# Altium schematic symbol library QUTMS_STM32Library.SchLib: 6 symbols
Pins are listed as number, name and electrical type; pins without a type are passive.

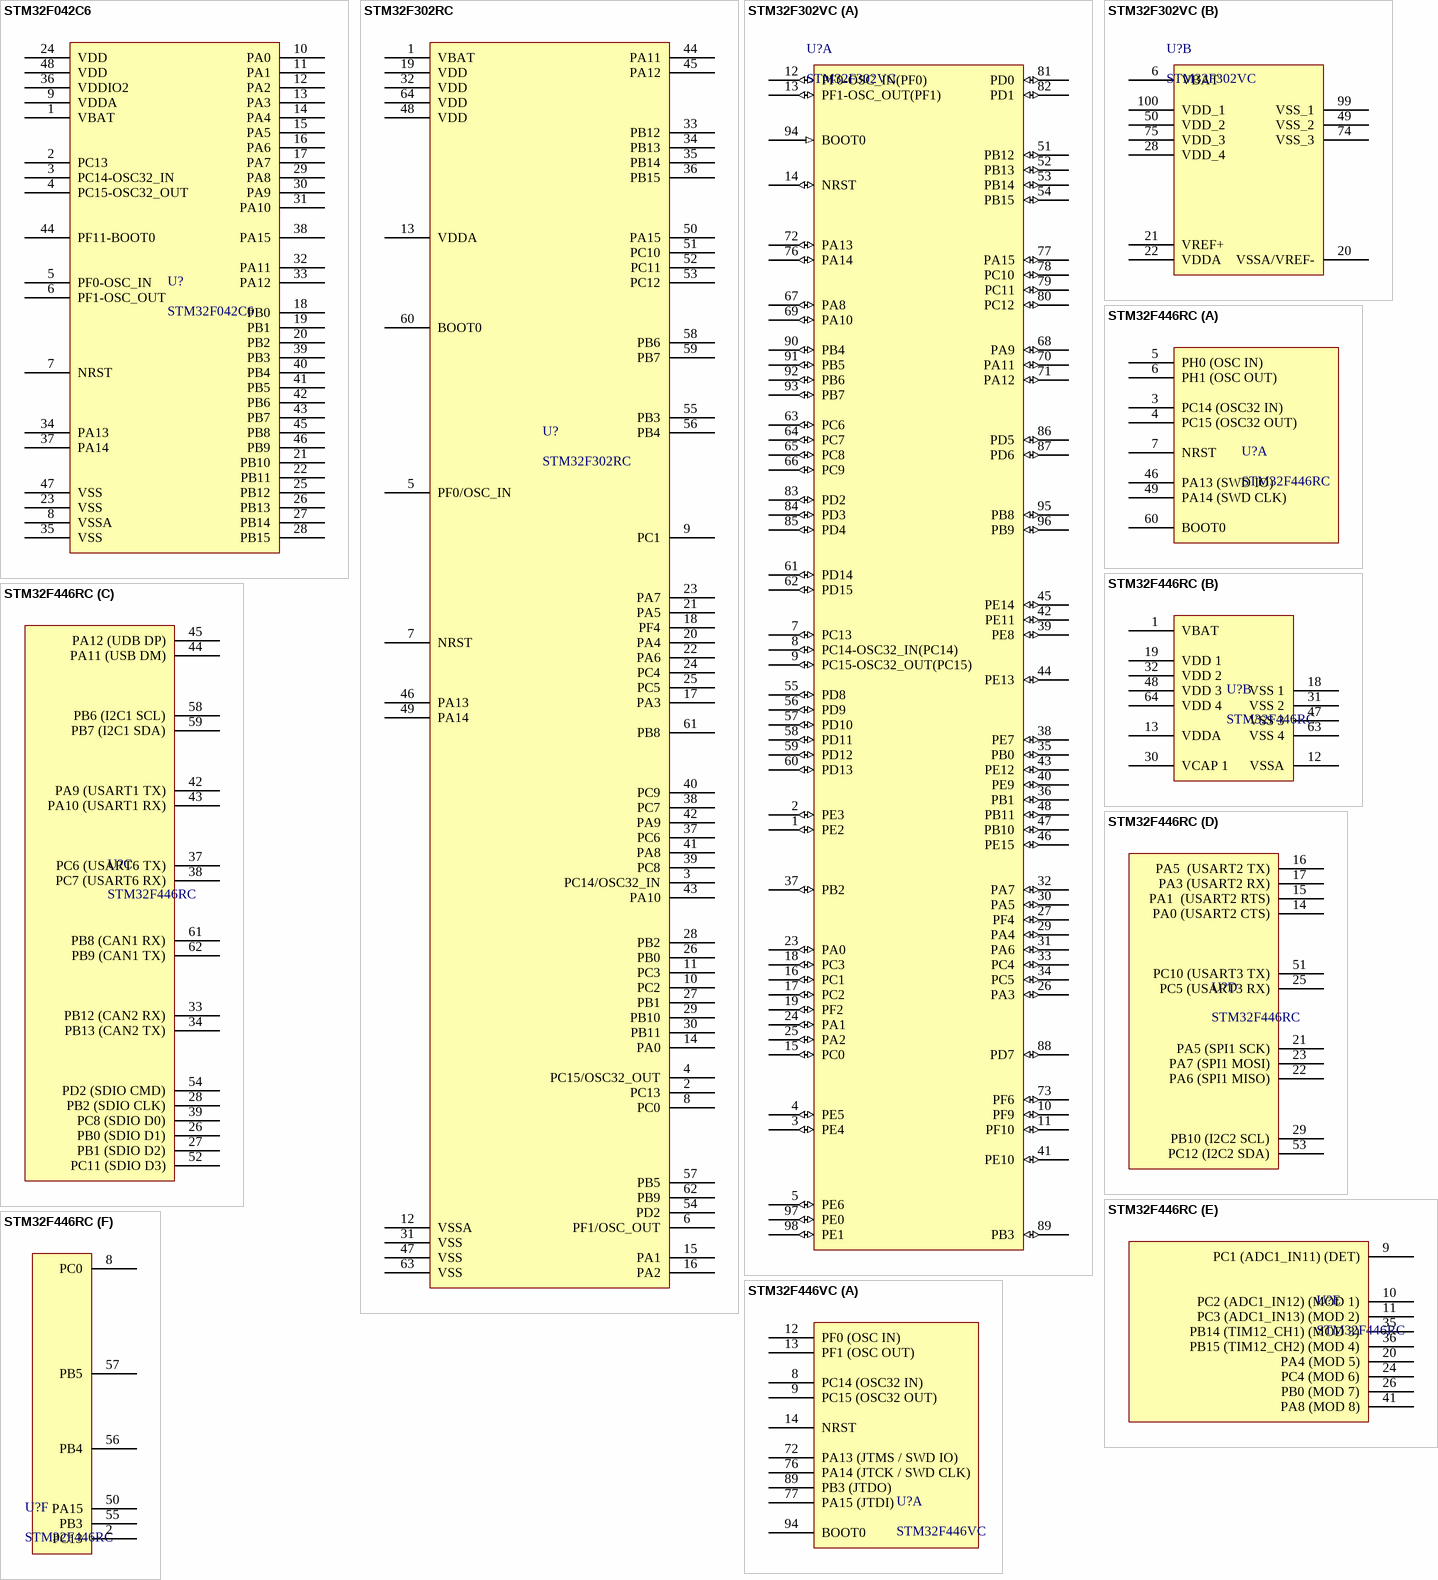
[diagram p0: symbols STM32F042C6 to STM32F446VC]

## STM32F042C6
designator U?
ARM® Cortex®-M0 STM32F0 Microcontroller IC 32-Bit 48MHz 32KB (32K x 8) FLASH 48-LQFP (7x7); ComponentLink1Description: Digikey; ComponentLink1URL: https://www.digikey.com.au/product-detail/en/stmicroelectronics/STM32F042C6T6TR/497-19319-1-ND/10063344; ComponentLink2Description: Datasheet; ComponentLink2URL: https://www.st.com/resource/en/datasheet/stm32f042k6.pdf
footprint STM32F042C6
pins: 1 VBAT, 2 PC13, 3 PC14-OSC32_IN, 4 PC15-OSC32_OUT, 5 PF0-OSC_IN, 6 PF1-OSC_OUT, 7 NRST, 8 VSSA, 9 VDDA, 10 PA0, 11 PA1, 12 PA2, 13 PA3, 14 PA4, 15 PA5, 16 PA6, 17 PA7, 18 PB0, 19 PB1, 20 PB2, 21 PB10, 22 PB11, 23 VSS, 24 VDD, 25 PB12, 26 PB13, 27 PB14, 28 PB15, 29 PA8, 30 PA9, 31 PA10, 32 PA11, 33 PA12, 34 PA13, 35 VSS, 36 VDDIO2, 37 PA14, 38 PA15, 39 PB3, 40 PB4, 41 PB5, 42 PB6, 43 PB7, 44 PF11-BOOT0, 45 PB8, 46 PB9, 47 VSS, 48 VDD

## STM32F302RC
designator U?
ARM® Cortex®-M4 STM32F3 Microcontroller IC 32-Bit 72MHz 256KB (256K x 8) FLASH 64-LQFP (10x10); ComponentLink1Description: Datasheet; ComponentLink1URL: https://www.st.com/resource/en/datasheet/stm32f302rc.pdf; ComponentLink2Description: Digikey; ComponentLink2URL: https://www.digikey.com.au/product-detail/en/stmicroelectronics/STM32F302RCT6TR/497-19000-1-ND/9974332
footprint STM32F302RC
pins: 1 VBAT, 2 PC13, 3 PC14/OSC32_IN, 4 PC15/OSC32_OUT, 5 PF0/OSC_IN, 6 PF1/OSC_OUT, 7 NRST, 8 PC0, 9 PC1, 10 PC2, 11 PC3, 12 VSSA, 13 VDDA, 14 PA0, 15 PA1, 16 PA2, 17 PA3, 18 PF4, 19 VDD, 20 PA4, 21 PA5, 22 PA6, 23 PA7, 24 PC4, 25 PC5, 26 PB0, 27 PB1, 28 PB2, 29 PB10, 30 PB11, 31 VSS, 32 VDD, 33 PB12, 34 PB13, 35 PB14, 36 PB15, 37 PC6, 38 PC7, 39 PC8, 40 PC9, 41 PA8, 42 PA9, 43 PA10, 44 PA11, 45 PA12, 46 PA13, 47 VSS, 48 VDD, 49 PA14, 50 PA15, 51 PC10, 52 PC11, 53 PC12, 54 PD2, 55 PB3, 56 PB4, 57 PB5, 58 PB6, 59 PB7, 60 BOOT0, 61 PB8, 62 PB9, 63 VSS, 64 VDD

## STM32F302VC
designator U?
ARM Cortex-M4 32-bit MCU, 256 KB Flash, 32 KB Internal RAM, 87 I/Os, 100-pin LQFP, -40 to 85 degC; PartNumber: STM32F302VCT6; FLASH Size (Prog) (kB): 256; Supply Voltage(Vcc) min (V): 2; Internal RAM Size (kB): 32; I/Os (High Current): 87; D/A Converter: 1x12-bit (1 Channel); Packing: Tray; Operating Frequency(F) (Processor speed) (MHz): 72; ComponentLink1URL: http://www.st.com/web/en/home.html; PackageDescription: 100-Pin Low Profile Quad Flat Package, 14 x 14 mm Body, 0.5 mm Pitch; ComponentLink1Description: Manufacturer URL; ComponentLink2URL: http://www.st.com/st-web-ui/static/active/en/resource/technical/document/datasheet/DM00058181.pdf; Mounting Technology: Surface Mount; Core: ARM Cortex-M4; ComponentLink2Description: Datasheet; ComponentLink3Description: Package Specification; PackageVersion: Rev. 1, 06/2013; ComponentLink3URL: http://www.st.com/st-web-ui/static/active/en/resource/technical/document/data_brief/DM00071938.pdf; PackageReference: LQFP100; DatasheetVersion: Rev. 6
footprint STM-LQFP100 (CQFP, 100-Leads, Body 16.00x16.00mm, Pitch 0.50mm, IPC Medium Density)
part A pins: 1 PE2 (io) "PE2/TRACECK,TIM3_CH1,TSC_G7_IO1,EVENTOUT", 2 PE3 (io) "PE3/TRACED0,TIM3_CH2,TSC_G7_IO2,EVENTOUT", 3 PE4 (io) "PE4/TRACED1,TIM3_CH3,TSC_G7_IO3,EVENTOUT", 4 PE5 (io) "PE5/TRACED2,TIM3_CH4,TSC_G7_IO4,EVENTOUT", 5 PE6 (io) "PE6/TRACED3,EVENTOUT/WKUP3,RTC_TAMP3", 7 PC13 (io) "PC13/TIM1_CH1N/WKUP2,RTC_TAMP1,RTC_TS,RTC_OUT", 8 PC14-OSC32_IN(PC14) (io) "PC14-OSC32_IN(PC14)/OSC32_IN", 9 PC15-OSC32_OUT(PC15) (io) "PC15-OSC32_OUT(PC15)/OSC32_OUT", 10 PF9 (io) "PF9/TIM15_CH1,SPI2_SCK,EVENTOUT", 11 PF10 (io) "PF10/TIM15_CH2,SPI2_SCK,EVENTOUT", 12 PF0-OSC_IN(PF0) (io) "PF0-OSC_IN(PF0)/TIM1_CH3N,I2C2_SDA/OSC_IN", 13 PF1-OSC_OUT(PF1) (io) "PF1-OSC_OUT(PF1)/I2C2_SCL/OSC_OUT", 14 NRST (io) "Device reset input / internal reset output (active low)", 15 PC0 (io) "PC0/EVENTOUT/ADC12_IN6", 16 PC1 (io) "PC1/EVENTOUT/ADC12_IN7", 17 PC2 (io) "PC2/EVENTOUT/ADC12_IN8", 18 PC3 (io) "PC3/TIM1_BKIN2,EVENTOUT/ADC12_IN9", 19 PF2 (io) "PF2/EVENTOUT/ADC12_IN10", 23 PA0 (io) "PA0/USART2_CTS,TIM2_CH1_ETR,TSC_G1_IO1,COMP1_OUT,EVENTOUT/ADC1_IN1,COMP1_INM,RTC_TAMP2,WKUP1", 24 PA1 (io) "PA1/USART2_RTS,TIM2_CH2,TSC_G1_IO2,TIM15_CH1N,RTC_REFIN,EVENTOUT/ADC1_IN2,COMP1_INP,OPAMP1_VINP", 25 PA2 (io) "PA2/USART2_TX,TIM2_CH3,TIM15_CH1,TSC_G1_IO3,COMP2_OUT,EVENTOUT/ADC1_IN3,COMP2_INM,OPAMP1_VOUT", 26 PA3 (io) "PA3/USART2_RX,TIM2_CH4,TIM15_CH2,TSC_G1_IO4,EVENTOUT/ADC1_IN4,OPAMP1_VINP,COMP2_INP,OPAMP1_VINM", 27 PF4 (io) "PF4/COMP1_OUT,EVENTOUT/ADC1_IN5", 29 PA4 (io) "PA4/SPI1_NSS,SPI3_NSS,USART2_CK,TSC_G2_IO1,TIM3_CH2,EVENTOUT/ADC2_IN1,DAC1_OUT1,COMP1_INM,COMP2_INM,COMP4_INM,COMP6_INM", 30 PA5 (io) "PA5/SPI1_SCK,TIM2_CH1_ETR,TSC_G2_IO2,EVENTOUT/ADC2_IN2,OPAMP1_VINP,OPAMP2_VINM,COMP1_INM,COMP2_INM,COMP4_INM,COMP6_INM", 31 PA6 (io) "PA6/SPI1_MISO,TIM3_CH1,TIM1_BKIN,TIM16_CH1,COMP1_OUT,TSC_G2_IO3,EVENTOUT/ADC2_IN3,OPAMP2_VOUT", 32 PA7 (io) "PA7/SPI1_MOSI,TIM3_CH2,TIM17_CH1,TIM1_CH1N,TSC_G2_IO4,COMP2_OUT,EVENTOUT/ADC2_IN4,COMP2_INP,OPAMP2_VINP,OPAMP1_VINP", 33 PC4 (io) "PC4/USART1_TX,EVENTOUT/ADC2_IN5", 34 PC5 (io) "PC5/USART1_RX,TSC_G3_IO1,EVENTOUT/ADC2_IN11,OPAMP2_VINM,OPAMP1_VINM", 35 PB0 (io) "PB0/TIM3_CH3,TIM1_CH2N,TSC_G3_IO2,EVENTOUT/COMP4_INP,OPAMP2_VINP", 36 PB1 (io) "PB1/TIM3_CH4,TIM1_CH3N,COMP4_OUT,TSC_G3_IO3,EVENTOUT", 37 PB2 (io) "PB2/TSC_G3_IO4,EVENTOUT/ADC2_IN12,COMP4_INM", 38 PE7 (io) "PE7/TIM1_ETR,EVENTOUT/COMP4_INP", 39 PE8 (io) "PE8/TIM1_CH1N,EVENTOUT/COMP4_INM", 40 PE9 (io) "PE9/TIM1_CH1,EVENTOUT", 41 PE10 (io) "PE10/TIM1_CH2N,EVENTOUT", 42 PE11 (io) "PE11/TIM1_CH2,EVENTOUT", 43 PE12 (io) "PE12/TIM1_CH3N,EVENTOUT", 44 PE13 (io) "PE13/TIM1_CH3,EVENTOUT", 45 PE14 (io) "PE14/TIM1_CH4,TIM1_BKIN2,EVENTOUT", 46 PE15 (io) "PE15/USART3_RX,TIM1_BKIN,EVENTOUT", 47 PB10 (io) "PB10/USART3_TX,TIM2_CH3,TSC_SYNC,EVENTOUT", 48 PB11 (io) "PB11/USART3_RX,TIM2_CH4,TSC_G6_IO1,EVENTOUT/COMP6_INP", 51 PB12 (io) "PB12/SPI2_NSS,I2C2_SMBA,USART3_CK,TIM1_BKIN,TSC_G6_IO2,EVENTOUT", 52 PB13 (io) "PB13/SPI2_SCK,USART3_CTS,TIM1_CH1N,TSC_G6_IO3,EVENTOUT", 53 PB14 (io) "PB14/SPI2_MISO,USART3_RTS,TIM1_CH2N,TIM15_CH1,TSC_G6_IO4,EVENTOUT/OPAMP2_VINP", 54 PB15 (io) "PB15/SPI2_MOSI,TIM1_CH3N,RTC_REFIN,TIM15_CH1N,TIM15_CH2,EVENTOUT/COMP6_INM", 55 PD8 (io) "PD8/USART3_TX,EVENTOUT", 56 PD9 (io) "PD9/USART3_RX,EVENTOUT", 57 PD10 (io) "PD10/USART3_CK,EVENTOUT/COMP6_INM", 58 PD11 (io) "PD11/USART3_CTS,EVENTOUT/COMP6_INP", 59 PD12 (io) "PD12/USART3_RTS,TIM4_CH1,TSC_G8_IO1,EVENTOUT", 60 PD13 (io) "PD13/TIM4_CH2,TSC_G8_IO2,EVENTOUT", 61 PD14 (io) "PD14/TIM4_CH3,TSC_G8_IO3,EVENTOUT/OPAMP2_VINP", 62 PD15 (io) "PD15/SPI2_NSS,TIM4_CH4,TSC_G8_IO4,EVENTOUT", 63 PC6 (io) "PC6/COMP6_OUT,TIM3_CH1,EVENTOUT", 64 PC7 (io) "PC7/TIM3_CH2,EVENTOUT", 65 PC8 (io) "PC8/TIM3_CH3,EVENTOUT", 66 PC9 (io) "PC9/TIM3_CH4,EVENTOUT", 67 PA8 (io) "PA8/I2C2_SMBA,USART1_CK,TIM1_CH1,TIM4_ETR,MCO,EVENTOUT", 68 PA9 (io) "PA9/I2C2_SCL,USART1_TX,TIM1_CH2,TIM2_CH3,TIM15_BKIN,TSC_G4_IO1,EVENTOUT", 69 PA10 (io) "PA10/I2C2_SDA,USART1_RX,TIM1_CH3,TIM2_CH4,TIM17_BKIN,TSC_G4_IO2,COMP6_OUT,EVENTOUT", 70 PA11 (io) "PA11/USART1_CTS,USB_DM,CAN_RX,TIM1_CH1N,TIM1_CH4,TIM1_BKIN2,TIM4_CH1,COMP1_OUT,EVENTOUT", 71 PA12 (io) "PA12/USART1_RTS,USB_DP,CAN_TX,TIM1_CH2N,TIM1_ETR,TIM4_CH2,TIM16_CH1,COMP2_OUT,EVENTOUT", 72 PA13 (io) "PA13/USART3_CTS,TIM4_CH3,TIM16_CH1N,TSC_G4_IO3,IR_OUT,SWDIO-JTMS,EVENTOUT", 73 PF6 (io) "PF6/I2C2_SCL,USART3_RTS,TIM4_CH4,EVENTOUT", 76 PA14 (io) "PA14/I2C1_SDA,USART2_TX,TIM1_BKIN,TSC_G4_IO4,SWCLK-JTCK,EVENTOUT", 77 PA15 (io) "PA15/I2C1_SCL,SPI1_NSS,SPI3_NSS,JTDI,USART2_RX,TIM1_BKIN,TIM2_CH1_ETR,EVENTOUT", 78 PC10 (io) "PC10/SPI3_SCK,USART3_TX,UART4_TX,EVENTOUT", 79 PC11 (io) "PC11/SPI3_MISO,USART3_RX,UART4_RX,EVENTOUT", 80 PC12 (io) "PC12/SPI3_MOSI,USART3_CK,UART5_TX,EVENTOUT", 81 PD0 (io) "PD0/CAN_RX,EVENTOUT", 82 PD1 (io) "PD1/CAN_TX,EVENTOUT", 83 PD2 (io) "PD2/UART5_RX,TIM3_ETR,EVENTOUT", 84 PD3 (io) "PD3/USART2_CTS,TIM2_CH1_ETR,EVENTOUT", 85 PD4 (io) "PD4/USART2_RTS,TIM2_CH2,EVENTOUT", 86 PD5 (io) "PD5/USART2_TX,EVENTOUT", 87 PD6 (io) "PD6/USART2_RX,TIM2_CH4,EVENTOUT", 88 PD7 (io) "PD7/USART2_CK,TIM2_CH3,EVENTOUT", 89 PB3 (io) "PB3/SPI3_SCK,SPI1_SCK,USART2_TX,TIM2_CH2,TIM3_ETR,TIM4_ETR,TSC_G5_IO1,JTDO-TRACESWO,EVENTOUT", 90 PB4 (io) "PB4/SPI3_MISO,SPI1_MISO,USART2_RX,TIM3_CH1,TIM16_CH1,TIM17_BKIN,TSC_G5_IO2,NJTRST,EVENTOUT", 91 PB5 (io) "PB5/SPI3_MOSI,SPI1_MOSI,I2C1_SMBA,USART2_CK,TIM16_BKIN,TIM3_CH2,TIM17_CH1,EVENTOUT", 92 PB6 (io) "PB6/I2C1_SCL,USART1_TX,TIM16_CH1N,TIM4_CH1,TSC_G5_IO3,EVENTOUT", 93 PB7 (io) "PB7/I2C1_SDA,USART1_RX,TIM3_CH4,TIM4_CH2,TIM17_CH1N,TSC_G5_IO4,EVENTOUT", 94 BOOT0 (in) "Boot memory selection", 95 PB8 (io) "PB8/I2C1_SCL,CAN_RX,TIM16_CH1,TIM4_CH3,TIM1_BKIN,TSC_SYNC,COMP1_OUT,EVENTOUT", 96 PB9 (io) "PB9/I2C1_SDA,CAN_TX,TIM17_CH1,TIM4_CH4,IR_OUT,COMP2_OUT,EVENTOUT", 97 PE0 (io) "PE0/USART1_TX,TIM4_ETR,TIM16_CH1,EVENTOUT", 98 PE1 (io) "PE1/USART1_RX,TIM17_CH1,EVENTOUT"
part B pins: 6 VBAT (power) "Backup power supply", 20 VSSA/VREF- (power) "Analog ground/Negative reference voltage", 21 VREF+ (power) "Positive reference voltage", 22 VDDA (power) "Analog power supply", 28 VDD_4 (power) "Digital power supply", 49 VSS_2 (power) "Digital ground", 50 VDD_2 (power) "Digital power supply", 74 VSS_3 (power) "Ground", 75 VDD_3 (power) "Digital power supply", 99 VSS_1 (power) "Ground", 100 VDD_1 (power) "Digital power supply"

## STM32F446RC
designator U?
ARM® Cortex®-M4 STM32F4 Microcontroller IC 32-Bit 180MHz 256KB (256K x 8) FLASH 64-LQFP (10x10)
footprint STM-LQFP64_V
part A pins: 3 PC14 (OSC32 IN) "PC14-OSC32_IN(PC14)/OSC32_IN", 4 PC15 (OSC32 OUT) "PC15-OSC32_OUT(PC15)/OSC32_OUT", 5 PH0 (OSC IN) "PF0-OSC_IN(PF0)/TIM1_CH3N,I2C2_SDA/OSC_IN", 6 PH1 (OSC OUT) "PF1-OSC_OUT(PF1)/I2C2_SCL/OSC_OUT", 7 NRST "Device reset input / internal reset output (active low)", 46 PA13 (SWD IO) "PA13/USART3_CTS,TIM4_CH3,TIM16_CH1N,TSC_G4_IO3,IR_OUT,SWDIO-JTMS,EVENTOUT", 49 PA14 (SWD CLK) "PA14/I2C1_SDA,USART2_TX,TIM1_BKIN,TSC_G4_IO4,SWCLK-JTCK,EVENTOUT", 60 BOOT0 "Boot memory selection"
part B pins: 1 VBAT "Backup power supply", 12 VSSA "Analog ground/Negative reference voltage", 13 VDDA "Analog power supply", 18 VSS 1 "PF9/TIM15_CH1,SPI2_SCK,EVENTOUT", 19 VDD 1 "PF10/TIM15_CH2,SPI2_SCK,EVENTOUT", 30 VCAP 1 "PB11/USART3_RX,TIM2_CH4,TSC_G6_IO1,EVENTOUT/COMP6_INP", 31 VSS 2 "PF4/COMP1_OUT,EVENTOUT/ADC1_IN5", 32 VDD 2 "PF2/EVENTOUT/ADC12_IN10", 47 VSS 3 "Digital ground", 48 VDD 3 "Digital power supply", 63 VSS 4 "Ground", 64 VDD 4 "Digital power supply"
part C pins: 26 PB0 (SDIO D1) "PC9/TIM3_CH4,EVENTOUT", 27 PB1 (SDIO D2) "PB1/TIM3_CH4,TIM1_CH3N,COMP4_OUT,TSC_G3_IO3,EVENTOUT", 28 PB2 (SDIO CLK) "PB2/TSC_G3_IO4,EVENTOUT/ADC2_IN12,COMP4_INM", 33 PB12 (CAN2 RX) "PB12/SPI2_NSS,I2C2_SMBA,USART3_CK,TIM1_BKIN,TSC_G6_IO2,EVENTOUT", 34 PB13 (CAN2 TX) "PB13/SPI2_SCK,USART3_CTS,TIM1_CH1N,TSC_G6_IO3,EVENTOUT", 37 PC6 (USART6 TX) "PE5/TRACED2,TIM3_CH4,TSC_G7_IO4,EVENTOUT", 38 PC7 (USART6 RX) "PE6/TRACED3,EVENTOUT/WKUP3,RTC_TAMP3", 39 PC8 (SDIO D0) "PC8/TIM3_CH3,EVENTOUT", 42 PA9 (USART1 TX) "PA9/I2C2_SCL,USART1_TX,TIM1_CH2,TIM2_CH3,TIM15_BKIN,TSC_G4_IO1,EVENTOUT", 43 PA10 (USART1 RX) "PA10/I2C2_SDA,USART1_RX,TIM1_CH3,TIM2_CH4,TIM17_BKIN,TSC_G4_IO2,COMP6_OUT,EVENTOUT", 44 PA11 (USB DM) "PA11/USART1_CTS,USB_DM,CAN_RX,TIM1_CH1N,TIM1_CH4,TIM1_BKIN2,TIM4_CH1,COMP1_OUT,EVENTOUT", 45 PA12 (UDB DP) "PA12/USART1_RTS,USB_DP,CAN_TX,TIM1_CH2N,TIM1_ETR,TIM4_CH2,TIM16_CH1,COMP2_OUT,EVENTOUT", 52 PC11 (SDIO D3) "PC11/SPI3_MISO,USART3_RX,UART4_RX,EVENTOUT", 54 PD2 (SDIO CMD) "PD2/UART5_RX,TIM3_ETR,EVENTOUT", 58 PB6 (I2C1 SCL) "PB6/I2C1_SCL,USART1_TX,TIM16_CH1N,TIM4_CH1,TSC_G5_IO3,EVENTOUT", 59 PB7 (I2C1 SDA) "PB7/I2C1_SDA,USART1_RX,TIM3_CH4,TIM4_CH2,TIM17_CH1N,TSC_G5_IO4,EVENTOUT", 61 PB8 (CAN1 RX) "PD0/CAN_RX,EVENTOUT", 62 PB9 (CAN1 TX) "PD1/CAN_TX,EVENTOUT"
part D pins: 14 PA0 (USART2 CTS) "PD3/USART2_CTS,TIM2_CH1_ETR,EVENTOUT", 15 PA1  (USART2 RTS) "PD4/USART2_RTS,TIM2_CH2,EVENTOUT", 16 PA5  (USART2 TX) "PD5/USART2_TX,EVENTOUT", 17 PA3 (USART2 RX) "PD6/USART2_RX,TIM2_CH4,EVENTOUT", 21 PA5 (SPI1 SCK) "PA5/SPI1_SCK,TIM2_CH1_ETR,TSC_G2_IO2,EVENTOUT/ADC2_IN2,OPAMP1_VINP,OPAMP2_VINM,COMP1_INM,COMP2_INM,COMP4_INM,COMP6_INM", 22 PA6 (SPI1 MISO) "PA6/SPI1_MISO,TIM3_CH1,TIM1_BKIN,TIM16_CH1,COMP1_OUT,TSC_G2_IO3,EVENTOUT/ADC2_IN3,OPAMP2_VOUT", 23 PA7 (SPI1 MOSI) "PA7/SPI1_MOSI,TIM3_CH2,TIM17_CH1,TIM1_CH1N,TSC_G2_IO4,COMP2_OUT,EVENTOUT/ADC2_IN4,COMP2_INP,OPAMP2_VINP,OPAMP1_VINP", 25 PC5 (USART3 RX) "PA1/USART2_RTS,TIM2_CH2,TSC_G1_IO2,TIM15_CH1N,RTC_REFIN,EVENTOUT/ADC1_IN2,COMP1_INP,OPAMP1_VINP", 29 PB10 (I2C2 SCL) "PB10/USART3_TX,TIM2_CH3,TSC_SYNC,EVENTOUT", 51 PC10 (USART3 TX) "PC10/SPI3_SCK,USART3_TX,UART4_TX,EVENTOUT", 53 PC12 (I2C2 SDA) "PC12/SPI3_MOSI,USART3_CK,UART5_TX,EVENTOUT"
part E pins: 9 PC1 (ADC1_IN11) (DET), 10 PC2 (ADC1_IN12) (MOD 1), 11 PC3 (ADC1_IN13) (MOD 2), 20 PA4 (MOD 5), 24 PC4 (MOD 6), 26 PB0 (MOD 7), 35 PB14 (TIM12_CH1) (MOD 3), 36 PB15 (TIM12_CH2) (MOD 4), 41 PA8 (MOD 8)
part F pins: 2 PC13, 8 PC0, 50 PA15, 55 PB3, 56 PB4, 57 PB5

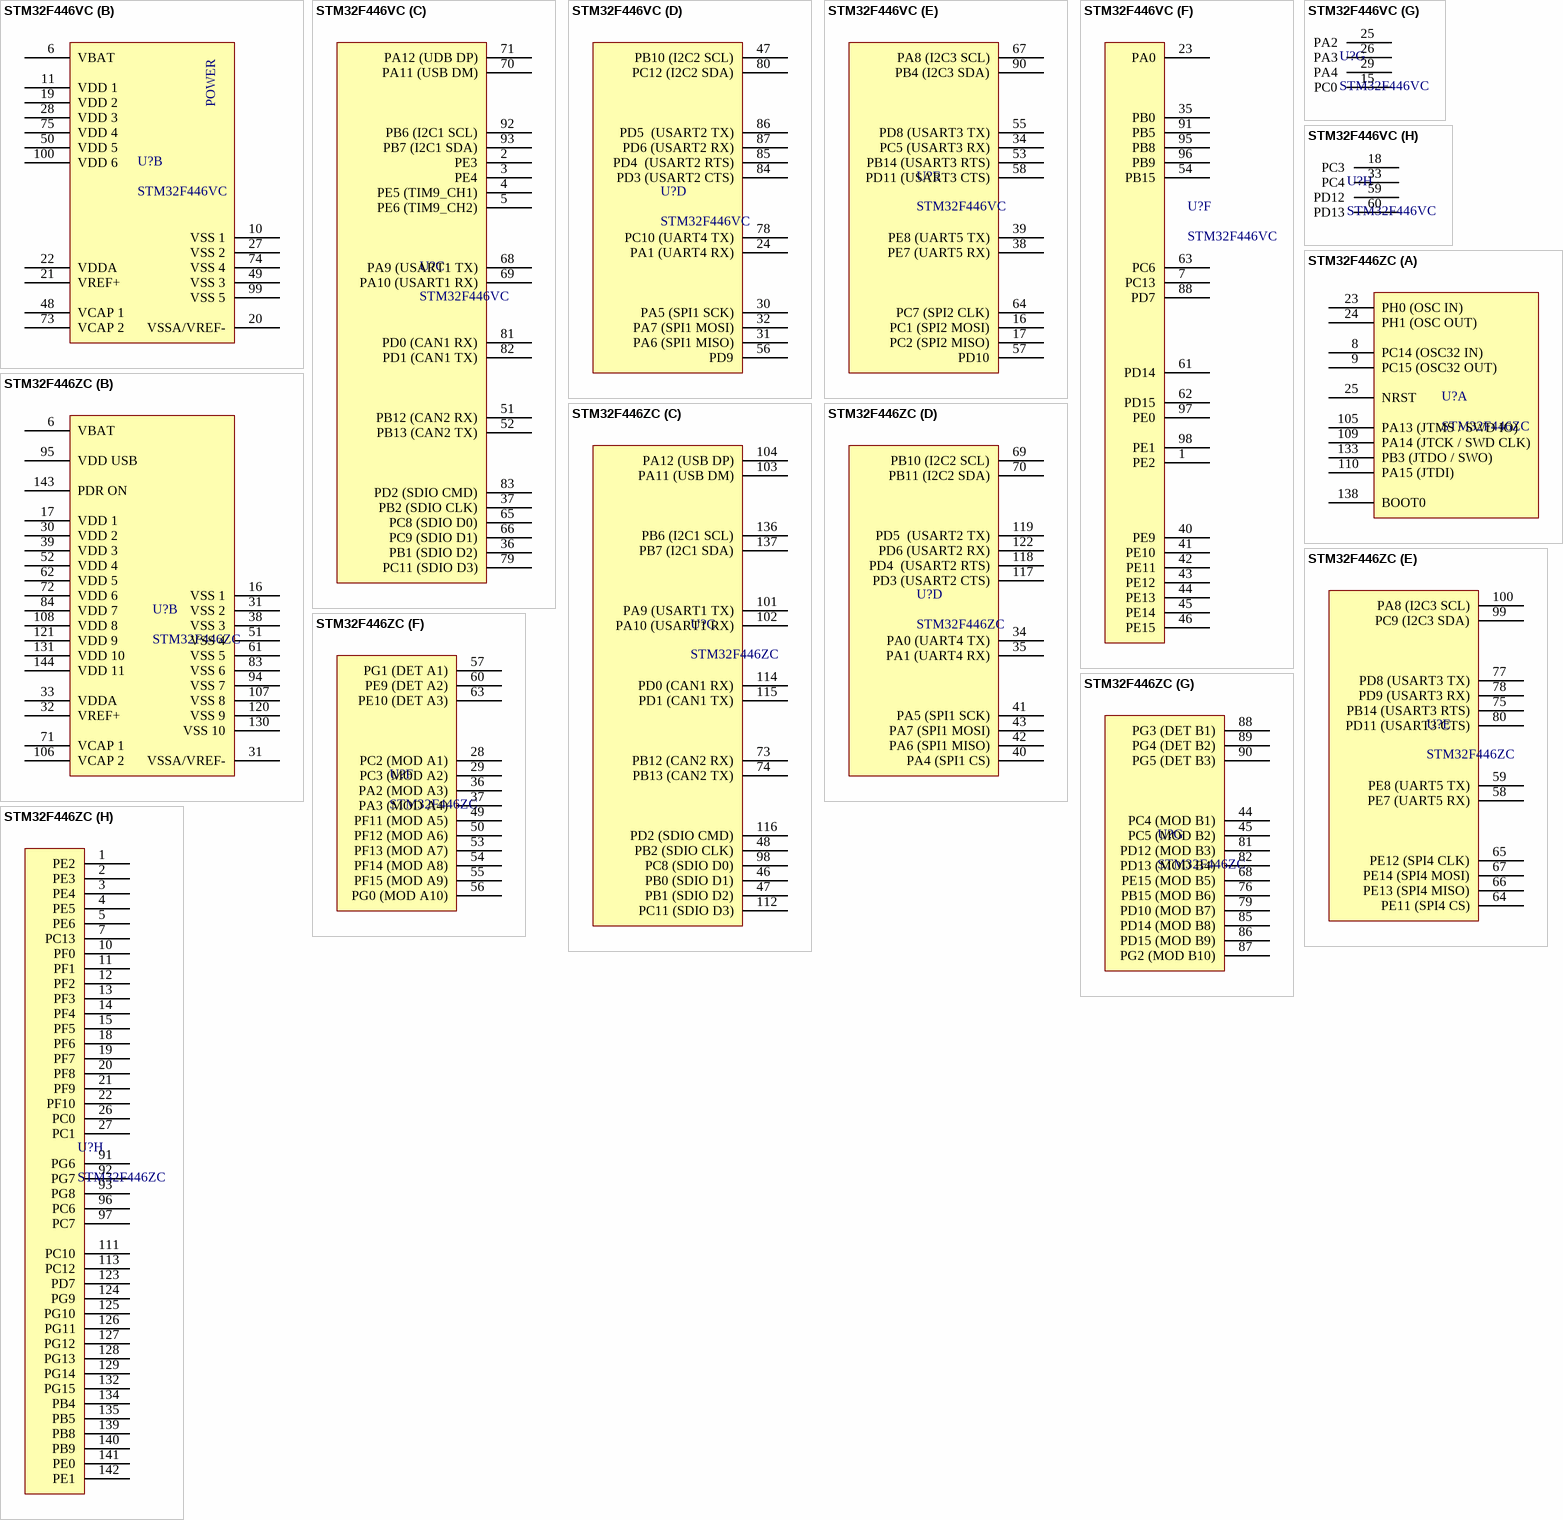
[diagram p1: symbols STM32F446VC to STM32F446ZC]

## STM32F446VC
designator U?
part A pins: 8 PC14 (OSC32 IN) "PC14-OSC32_IN(PC14)/OSC32_IN", 9 PC15 (OSC32 OUT) "PC15-OSC32_OUT(PC15)/OSC32_OUT", 12 PF0 (OSC IN) "PF0-OSC_IN(PF0)/TIM1_CH3N,I2C2_SDA/OSC_IN", 13 PF1 (OSC OUT) "PF1-OSC_OUT(PF1)/I2C2_SCL/OSC_OUT", 14 NRST "Device reset input / internal reset output (active low)", 72 PA13 (JTMS / SWD IO) "PA13/USART3_CTS,TIM4_CH3,TIM16_CH1N,TSC_G4_IO3,IR_OUT,SWDIO-JTMS,EVENTOUT", 76 PA14 (JTCK / SWD CLK) "PA14/I2C1_SDA,USART2_TX,TIM1_BKIN,TSC_G4_IO4,SWCLK-JTCK,EVENTOUT", 77 PA15 (JTDI) "PA15/I2C1_SCL,SPI1_NSS,SPI3_NSS,JTDI,USART2_RX,TIM1_BKIN,TIM2_CH1_ETR,EVENTOUT", 89 PB3 (JTDO) "PB3/SPI3_SCK,SPI1_SCK,USART2_TX,TIM2_CH2,TIM3_ETR,TIM4_ETR,TSC_G5_IO1,JTDO-TRACESWO,EVENTOUT", 94 BOOT0 "Boot memory selection"
part B pins: 6 VBAT "Backup power supply", 10 VSS 1 "PF9/TIM15_CH1,SPI2_SCK,EVENTOUT", 11 VDD 1 "PF10/TIM15_CH2,SPI2_SCK,EVENTOUT", 19 VDD 2 "PF2/EVENTOUT/ADC12_IN10", 20 VSSA/VREF- "Analog ground/Negative reference voltage", 21 VREF+ "Positive reference voltage", 22 VDDA "Analog power supply", 27 VSS 2 "PF4/COMP1_OUT,EVENTOUT/ADC1_IN5", 28 VDD 3 "Digital power supply", 48 VCAP 1 "PB11/USART3_RX,TIM2_CH4,TSC_G6_IO1,EVENTOUT/COMP6_INP", 49 VSS 3 "Digital ground", 50 VDD 5 "Digital power supply", 73 VCAP 2 "PF6/I2C2_SCL,USART3_RTS,TIM4_CH4,EVENTOUT", 74 VSS 4 "Ground", 75 VDD 4 "Digital power supply", 99 VSS 5 "Ground", 100 VDD 6 "Digital power supply"
part C pins: 2 PE3 "PE3/TRACED0,TIM3_CH2,TSC_G7_IO2,EVENTOUT", 3 PE4 "PE4/TRACED1,TIM3_CH3,TSC_G7_IO3,EVENTOUT", 4 PE5 (TIM9_CH1) "PE5/TRACED2,TIM3_CH4,TSC_G7_IO4,EVENTOUT", 5 PE6 (TIM9_CH2) "PE6/TRACED3,EVENTOUT/WKUP3,RTC_TAMP3", 36 PB1 (SDIO D2) "PB1/TIM3_CH4,TIM1_CH3N,COMP4_OUT,TSC_G3_IO3,EVENTOUT", 37 PB2 (SDIO CLK) "PB2/TSC_G3_IO4,EVENTOUT/ADC2_IN12,COMP4_INM", 51 PB12 (CAN2 RX) "PB12/SPI2_NSS,I2C2_SMBA,USART3_CK,TIM1_BKIN,TSC_G6_IO2,EVENTOUT", 52 PB13 (CAN2 TX) "PB13/SPI2_SCK,USART3_CTS,TIM1_CH1N,TSC_G6_IO3,EVENTOUT", 65 PC8 (SDIO D0) "PC8/TIM3_CH3,EVENTOUT", 66 PC9 (SDIO D1) "PC9/TIM3_CH4,EVENTOUT", 68 PA9 (USART1 TX) "PA9/I2C2_SCL,USART1_TX,TIM1_CH2,TIM2_CH3,TIM15_BKIN,TSC_G4_IO1,EVENTOUT", 69 PA10 (USART1 RX) "PA10/I2C2_SDA,USART1_RX,TIM1_CH3,TIM2_CH4,TIM17_BKIN,TSC_G4_IO2,COMP6_OUT,EVENTOUT", 70 PA11 (USB DM) "PA11/USART1_CTS,USB_DM,CAN_RX,TIM1_CH1N,TIM1_CH4,TIM1_BKIN2,TIM4_CH1,COMP1_OUT,EVENTOUT", 71 PA12 (UDB DP) "PA12/USART1_RTS,USB_DP,CAN_TX,TIM1_CH2N,TIM1_ETR,TIM4_CH2,TIM16_CH1,COMP2_OUT,EVENTOUT", 79 PC11 (SDIO D3) "PC11/SPI3_MISO,USART3_RX,UART4_RX,EVENTOUT", 81 PD0 (CAN1 RX) "PD0/CAN_RX,EVENTOUT", 82 PD1 (CAN1 TX) "PD1/CAN_TX,EVENTOUT", 83 PD2 (SDIO CMD) "PD2/UART5_RX,TIM3_ETR,EVENTOUT", 92 PB6 (I2C1 SCL) "PB6/I2C1_SCL,USART1_TX,TIM16_CH1N,TIM4_CH1,TSC_G5_IO3,EVENTOUT", 93 PB7 (I2C1 SDA) "PB7/I2C1_SDA,USART1_RX,TIM3_CH4,TIM4_CH2,TIM17_CH1N,TSC_G5_IO4,EVENTOUT"
part D pins: 24 PA1 (UART4 RX) "PA1/USART2_RTS,TIM2_CH2,TSC_G1_IO2,TIM15_CH1N,RTC_REFIN,EVENTOUT/ADC1_IN2,COMP1_INP,OPAMP1_VINP", 30 PA5 (SPI1 SCK) "PA5/SPI1_SCK,TIM2_CH1_ETR,TSC_G2_IO2,EVENTOUT/ADC2_IN2,OPAMP1_VINP,OPAMP2_VINM,COMP1_INM,COMP2_INM,COMP4_INM,COMP6_INM", 31 PA6 (SPI1 MISO) "PA6/SPI1_MISO,TIM3_CH1,TIM1_BKIN,TIM16_CH1,COMP1_OUT,TSC_G2_IO3,EVENTOUT/ADC2_IN3,OPAMP2_VOUT", 32 PA7 (SPI1 MOSI) "PA7/SPI1_MOSI,TIM3_CH2,TIM17_CH1,TIM1_CH1N,TSC_G2_IO4,COMP2_OUT,EVENTOUT/ADC2_IN4,COMP2_INP,OPAMP2_VINP,OPAMP1_VINP", 47 PB10 (I2C2 SCL) "PB10/USART3_TX,TIM2_CH3,TSC_SYNC,EVENTOUT", 56 PD9 "PD9/USART3_RX,EVENTOUT", 78 PC10 (UART4 TX) "PC10/SPI3_SCK,USART3_TX,UART4_TX,EVENTOUT", 80 PC12 (I2C2 SDA) "PC12/SPI3_MOSI,USART3_CK,UART5_TX,EVENTOUT", 84 PD3 (USART2 CTS) "PD3/USART2_CTS,TIM2_CH1_ETR,EVENTOUT", 85 PD4  (USART2 RTS) "PD4/USART2_RTS,TIM2_CH2,EVENTOUT", 86 PD5  (USART2 TX) "PD5/USART2_TX,EVENTOUT", 87 PD6 (USART2 RX) "PD6/USART2_RX,TIM2_CH4,EVENTOUT"
part E pins: 16 PC1 (SPI2 MOSI) "PC1/EVENTOUT/ADC12_IN7", 17 PC2 (SPI2 MISO) "PC2/EVENTOUT/ADC12_IN8", 34 PC5 (USART3 RX) "PC5/USART1_RX,TSC_G3_IO1,EVENTOUT/ADC2_IN11,OPAMP2_VINM,OPAMP1_VINM", 38 PE7 (UART5 RX) "PE7/TIM1_ETR,EVENTOUT/COMP4_INP", 39 PE8 (UART5 TX) "PE8/TIM1_CH1N,EVENTOUT/COMP4_INM", 53 PB14 (USART3 RTS) "PB14/SPI2_MISO,USART3_RTS,TIM1_CH2N,TIM15_CH1,TSC_G6_IO4,EVENTOUT/OPAMP2_VINP", 55 PD8 (USART3 TX) "PD8/USART3_TX,EVENTOUT", 57 PD10 "PD10/USART3_CK,EVENTOUT/COMP6_INM", 58 PD11 (USART3 CTS) "PD11/USART3_CTS,EVENTOUT/COMP6_INP", 64 PC7 (SPI2 CLK) "PC7/TIM3_CH2,EVENTOUT", 67 PA8 (I2C3 SCL) "PA8/I2C2_SMBA,USART1_CK,TIM1_CH1,TIM4_ETR,MCO,EVENTOUT", 90 PB4 (I2C3 SDA) "PB4/SPI3_MISO,SPI1_MISO,USART2_RX,TIM3_CH1,TIM16_CH1,TIM17_BKIN,TSC_G5_IO2,NJTRST,EVENTOUT"
part F pins: 1 PE2 "PE2/TRACECK,TIM3_CH1,TSC_G7_IO1,EVENTOUT", 7 PC13 "PC13/TIM1_CH1N/WKUP2,RTC_TAMP1,RTC_TS,RTC_OUT", 23 PA0 "PA0/USART2_CTS,TIM2_CH1_ETR,TSC_G1_IO1,COMP1_OUT,EVENTOUT/ADC1_IN1,COMP1_INM,RTC_TAMP2,WKUP1", 35 PB0 "PB0/TIM3_CH3,TIM1_CH2N,TSC_G3_IO2,EVENTOUT/COMP4_INP,OPAMP2_VINP", 40 PE9 "PE9/TIM1_CH1,EVENTOUT", 41 PE10 "PE10/TIM1_CH2N,EVENTOUT", 42 PE11 "PE11/TIM1_CH2,EVENTOUT", 43 PE12 "PE12/TIM1_CH3N,EVENTOUT", 44 PE13 "PE13/TIM1_CH3,EVENTOUT", 45 PE14 "PE14/TIM1_CH4,TIM1_BKIN2,EVENTOUT", 46 PE15 "PE15/USART3_RX,TIM1_BKIN,EVENTOUT", 54 PB15 "PB15/SPI2_MOSI,TIM1_CH3N,RTC_REFIN,TIM15_CH1N,TIM15_CH2,EVENTOUT/COMP6_INM", 61 PD14 "PD14/TIM4_CH3,TSC_G8_IO3,EVENTOUT/OPAMP2_VINP", 62 PD15 "PD15/SPI2_NSS,TIM4_CH4,TSC_G8_IO4,EVENTOUT", 63 PC6 "PC6/COMP6_OUT,TIM3_CH1,EVENTOUT", 88 PD7 "PD7/USART2_CK,TIM2_CH3,EVENTOUT", 91 PB5 "PB5/SPI3_MOSI,SPI1_MOSI,I2C1_SMBA,USART2_CK,TIM16_BKIN,TIM3_CH2,TIM17_CH1,EVENTOUT", 95 PB8 "PB8/I2C1_SCL,CAN_RX,TIM16_CH1,TIM4_CH3,TIM1_BKIN,TSC_SYNC,COMP1_OUT,EVENTOUT", 96 PB9 "PB9/I2C1_SDA,CAN_TX,TIM17_CH1,TIM4_CH4,IR_OUT,COMP2_OUT,EVENTOUT", 97 PE0 "PE0/USART1_TX,TIM4_ETR,TIM16_CH1,EVENTOUT", 98 PE1 "PE1/USART1_RX,TIM17_CH1,EVENTOUT"
part G pins: 15 PC0 "PC0/EVENTOUT/ADC12_IN6", 25 PA2 "PA2/USART2_TX,TIM2_CH3,TIM15_CH1,TSC_G1_IO3,COMP2_OUT,EVENTOUT/ADC1_IN3,COMP2_INM,OPAMP1_VOUT", 26 PA3 "PA3/USART2_RX,TIM2_CH4,TIM15_CH2,TSC_G1_IO4,EVENTOUT/ADC1_IN4,OPAMP1_VINP,COMP2_INP,OPAMP1_VINM", 29 PA4 "PA4/SPI1_NSS,SPI3_NSS,USART2_CK,TSC_G2_IO1,TIM3_CH2,EVENTOUT/ADC2_IN1,DAC1_OUT1,COMP1_INM,COMP2_INM,COMP4_INM,COMP6_INM"
part H pins: 18 PC3 "PC3/TIM1_BKIN2,EVENTOUT/ADC12_IN9", 33 PC4 "PC4/USART1_TX,EVENTOUT/ADC2_IN5", 59 PD12 "PD12/USART3_RTS,TIM4_CH1,TSC_G8_IO1,EVENTOUT", 60 PD13 "PD13/TIM4_CH2,TSC_G8_IO2,EVENTOUT"
part B text: POWER

## STM32F446ZC
designator U?
footprint STM-LQFP144_V
part A pins: 8 PC14 (OSC32 IN) "PC14-OSC32_IN(PC14)/OSC32_IN", 9 PC15 (OSC32 OUT) "PC15-OSC32_OUT(PC15)/OSC32_OUT", 23 PH0 (OSC IN) "PF0-OSC_IN(PF0)/TIM1_CH3N,I2C2_SDA/OSC_IN", 24 PH1 (OSC OUT) "PF1-OSC_OUT(PF1)/I2C2_SCL/OSC_OUT", 25 NRST "Device reset input / internal reset output (active low)", 105 PA13 (JTMS / SWD IO) "PA13/USART3_CTS,TIM4_CH3,TIM16_CH1N,TSC_G4_IO3,IR_OUT,SWDIO-JTMS,EVENTOUT", 109 PA14 (JTCK / SWD CLK) "PA14/I2C1_SDA,USART2_TX,TIM1_BKIN,TSC_G4_IO4,SWCLK-JTCK,EVENTOUT", 110 PA15 (JTDI) "PA15/I2C1_SCL,SPI1_NSS,SPI3_NSS,JTDI,USART2_RX,TIM1_BKIN,TIM2_CH1_ETR,EVENTOUT", 133 PB3 (JTDO / SWO) "PB3/SPI3_SCK,SPI1_SCK,USART2_TX,TIM2_CH2,TIM3_ETR,TIM4_ETR,TSC_G5_IO1,JTDO-TRACESWO,EVENTOUT", 138 BOOT0 "Boot memory selection"
part B pins: 6 VBAT "Backup power supply", 16 VSS 1 "PF9/TIM15_CH1,SPI2_SCK,EVENTOUT", 17 VDD 1 "PF10/TIM15_CH2,SPI2_SCK,EVENTOUT", 30 VDD 2 "PF10/TIM15_CH2,SPI2_SCK,EVENTOUT", 31 VSSA/VREF- "Analog ground/Negative reference voltage", 31 VSS 2 "PF9/TIM15_CH1,SPI2_SCK,EVENTOUT", 32 VREF+ "Positive reference voltage", 33 VDDA "Analog power supply", 38 VSS 3 "PF9/TIM15_CH1,SPI2_SCK,EVENTOUT", 39 VDD 3 "PF10/TIM15_CH2,SPI2_SCK,EVENTOUT", 51 VSS 4 "PF9/TIM15_CH1,SPI2_SCK,EVENTOUT", 52 VDD 4 "PF10/TIM15_CH2,SPI2_SCK,EVENTOUT", 61 VSS 5 "PF9/TIM15_CH1,SPI2_SCK,EVENTOUT", 62 VDD 5 "PF10/TIM15_CH2,SPI2_SCK,EVENTOUT", 71 VCAP 1 "PB11/USART3_RX,TIM2_CH4,TSC_G6_IO1,EVENTOUT/COMP6_INP", 72 VDD 6 "PF10/TIM15_CH2,SPI2_SCK,EVENTOUT", 83 VSS 6 "PF9/TIM15_CH1,SPI2_SCK,EVENTOUT", 84 VDD 7 "PF10/TIM15_CH2,SPI2_SCK,EVENTOUT", 94 VSS 7 "PF9/TIM15_CH1,SPI2_SCK,EVENTOUT", 95 VDD USB "PF10/TIM15_CH2,SPI2_SCK,EVENTOUT", 106 VCAP 2 "PF6/I2C2_SCL,USART3_RTS,TIM4_CH4,EVENTOUT", 107 VSS 8 "PF9/TIM15_CH1,SPI2_SCK,EVENTOUT", 108 VDD 8 "PF10/TIM15_CH2,SPI2_SCK,EVENTOUT", 120 VSS 9 "PF9/TIM15_CH1,SPI2_SCK,EVENTOUT", 121 VDD 9 "PF10/TIM15_CH2,SPI2_SCK,EVENTOUT", 130 VSS 10 "PF9/TIM15_CH1,SPI2_SCK,EVENTOUT", 131 VDD 10 "PF10/TIM15_CH2,SPI2_SCK,EVENTOUT", 143 PDR ON "PF10/TIM15_CH2,SPI2_SCK,EVENTOUT", 144 VDD 11 "PF10/TIM15_CH2,SPI2_SCK,EVENTOUT"
part C pins: 46 PB0 (SDIO D1) "PC9/TIM3_CH4,EVENTOUT", 47 PB1 (SDIO D2) "PB1/TIM3_CH4,TIM1_CH3N,COMP4_OUT,TSC_G3_IO3,EVENTOUT", 48 PB2 (SDIO CLK) "PB2/TSC_G3_IO4,EVENTOUT/ADC2_IN12,COMP4_INM", 73 PB12 (CAN2 RX) "PB12/SPI2_NSS,I2C2_SMBA,USART3_CK,TIM1_BKIN,TSC_G6_IO2,EVENTOUT", 74 PB13 (CAN2 TX) "PB13/SPI2_SCK,USART3_CTS,TIM1_CH1N,TSC_G6_IO3,EVENTOUT", 98 PC8 (SDIO D0) "PC8/TIM3_CH3,EVENTOUT", 101 PA9 (USART1 TX) "PA9/I2C2_SCL,USART1_TX,TIM1_CH2,TIM2_CH3,TIM15_BKIN,TSC_G4_IO1,EVENTOUT", 102 PA10 (USART1 RX) "PA10/I2C2_SDA,USART1_RX,TIM1_CH3,TIM2_CH4,TIM17_BKIN,TSC_G4_IO2,COMP6_OUT,EVENTOUT", 103 PA11 (USB DM) "PA11/USART1_CTS,USB_DM,CAN_RX,TIM1_CH1N,TIM1_CH4,TIM1_BKIN2,TIM4_CH1,COMP1_OUT,EVENTOUT", 104 PA12 (USB DP) "PA12/USART1_RTS,USB_DP,CAN_TX,TIM1_CH2N,TIM1_ETR,TIM4_CH2,TIM16_CH1,COMP2_OUT,EVENTOUT", 112 PC11 (SDIO D3) "PC11/SPI3_MISO,USART3_RX,UART4_RX,EVENTOUT", 114 PD0 (CAN1 RX) "PD0/CAN_RX,EVENTOUT", 115 PD1 (CAN1 TX) "PD1/CAN_TX,EVENTOUT", 116 PD2 (SDIO CMD) "PD2/UART5_RX,TIM3_ETR,EVENTOUT", 136 PB6 (I2C1 SCL) "PB6/I2C1_SCL,USART1_TX,TIM16_CH1N,TIM4_CH1,TSC_G5_IO3,EVENTOUT", 137 PB7 (I2C1 SDA) "PB7/I2C1_SDA,USART1_RX,TIM3_CH4,TIM4_CH2,TIM17_CH1N,TSC_G5_IO4,EVENTOUT"
part D pins: 34 PA0 (UART4 TX) "PC10/SPI3_SCK,USART3_TX,UART4_TX,EVENTOUT", 35 PA1 (UART4 RX) "PA1/USART2_RTS,TIM2_CH2,TSC_G1_IO2,TIM15_CH1N,RTC_REFIN,EVENTOUT/ADC1_IN2,COMP1_INP,OPAMP1_VINP", 40 PA4 (SPI1 CS) "PA6/SPI1_MISO,TIM3_CH1,TIM1_BKIN,TIM16_CH1,COMP1_OUT,TSC_G2_IO3,EVENTOUT/ADC2_IN3,OPAMP2_VOUT", 41 PA5 (SPI1 SCK) "PA5/SPI1_SCK,TIM2_CH1_ETR,TSC_G2_IO2,EVENTOUT/ADC2_IN2,OPAMP1_VINP,OPAMP2_VINM,COMP1_INM,COMP2_INM,COMP4_INM,COMP6_INM", 42 PA6 (SPI1 MISO) "PA6/SPI1_MISO,TIM3_CH1,TIM1_BKIN,TIM16_CH1,COMP1_OUT,TSC_G2_IO3,EVENTOUT/ADC2_IN3,OPAMP2_VOUT", 43 PA7 (SPI1 MOSI) "PA7/SPI1_MOSI,TIM3_CH2,TIM17_CH1,TIM1_CH1N,TSC_G2_IO4,COMP2_OUT,EVENTOUT/ADC2_IN4,COMP2_INP,OPAMP2_VINP,OPAMP1_VINP", 69 PB10 (I2C2 SCL) "PB10/USART3_TX,TIM2_CH3,TSC_SYNC,EVENTOUT", 70 PB11 (I2C2 SDA) "PC12/SPI3_MOSI,USART3_CK,UART5_TX,EVENTOUT", 117 PD3 (USART2 CTS) "PD3/USART2_CTS,TIM2_CH1_ETR,EVENTOUT", 118 PD4  (USART2 RTS) "PD4/USART2_RTS,TIM2_CH2,EVENTOUT", 119 PD5  (USART2 TX) "PD5/USART2_TX,EVENTOUT", 122 PD6 (USART2 RX) "PD6/USART2_RX,TIM2_CH4,EVENTOUT"
part E pins: 58 PE7 (UART5 RX) "PE7/TIM1_ETR,EVENTOUT/COMP4_INP", 59 PE8 (UART5 TX) "PE8/TIM1_CH1N,EVENTOUT/COMP4_INM", 64 PE11 (SPI4 CS) "PC7/TIM3_CH2,EVENTOUT", 65 PE12 (SPI4 CLK) "PC7/TIM3_CH2,EVENTOUT", 66 PE13 (SPI4 MISO) "PC2/EVENTOUT/ADC12_IN8", 67 PE14 (SPI4 MOSI) "PC1/EVENTOUT/ADC12_IN7", 75 PB14 (USART3 RTS) "PB14/SPI2_MISO,USART3_RTS,TIM1_CH2N,TIM15_CH1,TSC_G6_IO4,EVENTOUT/OPAMP2_VINP", 77 PD8 (USART3 TX) "PD8/USART3_TX,EVENTOUT", 78 PD9 (USART3 RX) "PC5/USART1_RX,TSC_G3_IO1,EVENTOUT/ADC2_IN11,OPAMP2_VINM,OPAMP1_VINM", 80 PD11 (USART3 CTS) "PD11/USART3_CTS,EVENTOUT/COMP6_INP", 99 PC9 (I2C3 SDA) "PB4/SPI3_MISO,SPI1_MISO,USART2_RX,TIM3_CH1,TIM16_CH1,TIM17_BKIN,TSC_G5_IO2,NJTRST,EVENTOUT", 100 PA8 (I2C3 SCL) "PA8/I2C2_SMBA,USART1_CK,TIM1_CH1,TIM4_ETR,MCO,EVENTOUT"
part F pins: 28 PC2 (MOD A1), 29 PC3 (MOD A2), 36 PA2 (MOD A3), 37 PA3 (MOD A4), 49 PF11 (MOD A5), 50 PF12 (MOD A6), 53 PF13 (MOD A7), 54 PF14 (MOD A8), 55 PF15 (MOD A9), 56 PG0 (MOD A10), 57 PG1 (DET A1), 60 PE9 (DET A2), 63 PE10 (DET A3)
part G pins: 44 PC4 (MOD B1), 45 PC5 (MOD B2), 68 PE15 (MOD B5), 76 PB15 (MOD B6), 79 PD10 (MOD B7), 81 PD12 (MOD B3), 82 PD13 (MOD B4), 85 PD14 (MOD B8), 86 PD15 (MOD B9), 87 PG2 (MOD B10), 88 PG3 (DET B1), 89 PG4 (DET B2), 90 PG5 (DET B3)
part H pins: 1 PE2, 2 PE3, 3 PE4, 4 PE5, 5 PE6, 7 PC13, 10 PF0, 11 PF1, 12 PF2, 13 PF3, 14 PF4, 15 PF5, 18 PF6, 19 PF7, 20 PF8, 21 PF9, 22 PF10, 26 PC0, 27 PC1, 91 PG6, 92 PG7, 93 PG8, 96 PC6, 97 PC7, 111 PC10, 113 PC12, 123 PD7, 124 PG9, 125 PG10, 126 PG11, 127 PG12, 128 PG13, 129 PG14, 132 PG15, 134 PB4, 135 PB5, 139 PB8, 140 PB9, 141 PE0, 142 PE1